# Altium integrated library SLF12565T-150M4R2-PF.IntLib: 1 symbol
Pins are listed as number, name and electrical type; pins without a type are passive.

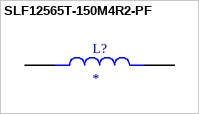
[diagram p0: symbol SLF12565T-150M4R2-PF]

## SLF12565T-150M4R2-PF
designator L?
15 ÂµH Shielded Drum Core, Wirewound Inductor 4.4 A 28.4mOhm Max Nonstandard; MF: TDK; MP: SLF12565T-150M4R2-PF; Package: NON STANDARD-2 TDK; Price: None; Check_prices: https://www.snapeda.com/parts/SLF12565T-150M4R2-PF/TDK/view-part/?ref=eda; Value: *; SnapEDA_Link: https://www.snapeda.com/parts/SLF12565T-150M4R2-PF/TDK/view-part/?ref=snap; Availability: In Stock; Purchase-URL: https://pricing.snapeda.com/search?q=SLF12565T-150M4R2-PF&ref=eda
footprint IND_SLF12565T-150M4R2-PF
pins: 1, 2